# Altium footprint library SG__PCB_SMD_Connectors.PcbLib: 63 footprints (part 1 of 4)
Each footprint in its own frame and in the unit in brackets; x right, y up, seen from the top. Pads: shape width x height; smd on the part's side, far side on the other; paste and mask are expansions set on the pad; w line width, h text height; cw(c..) or ccw(c..) is an arc to the next point about the centre after c.
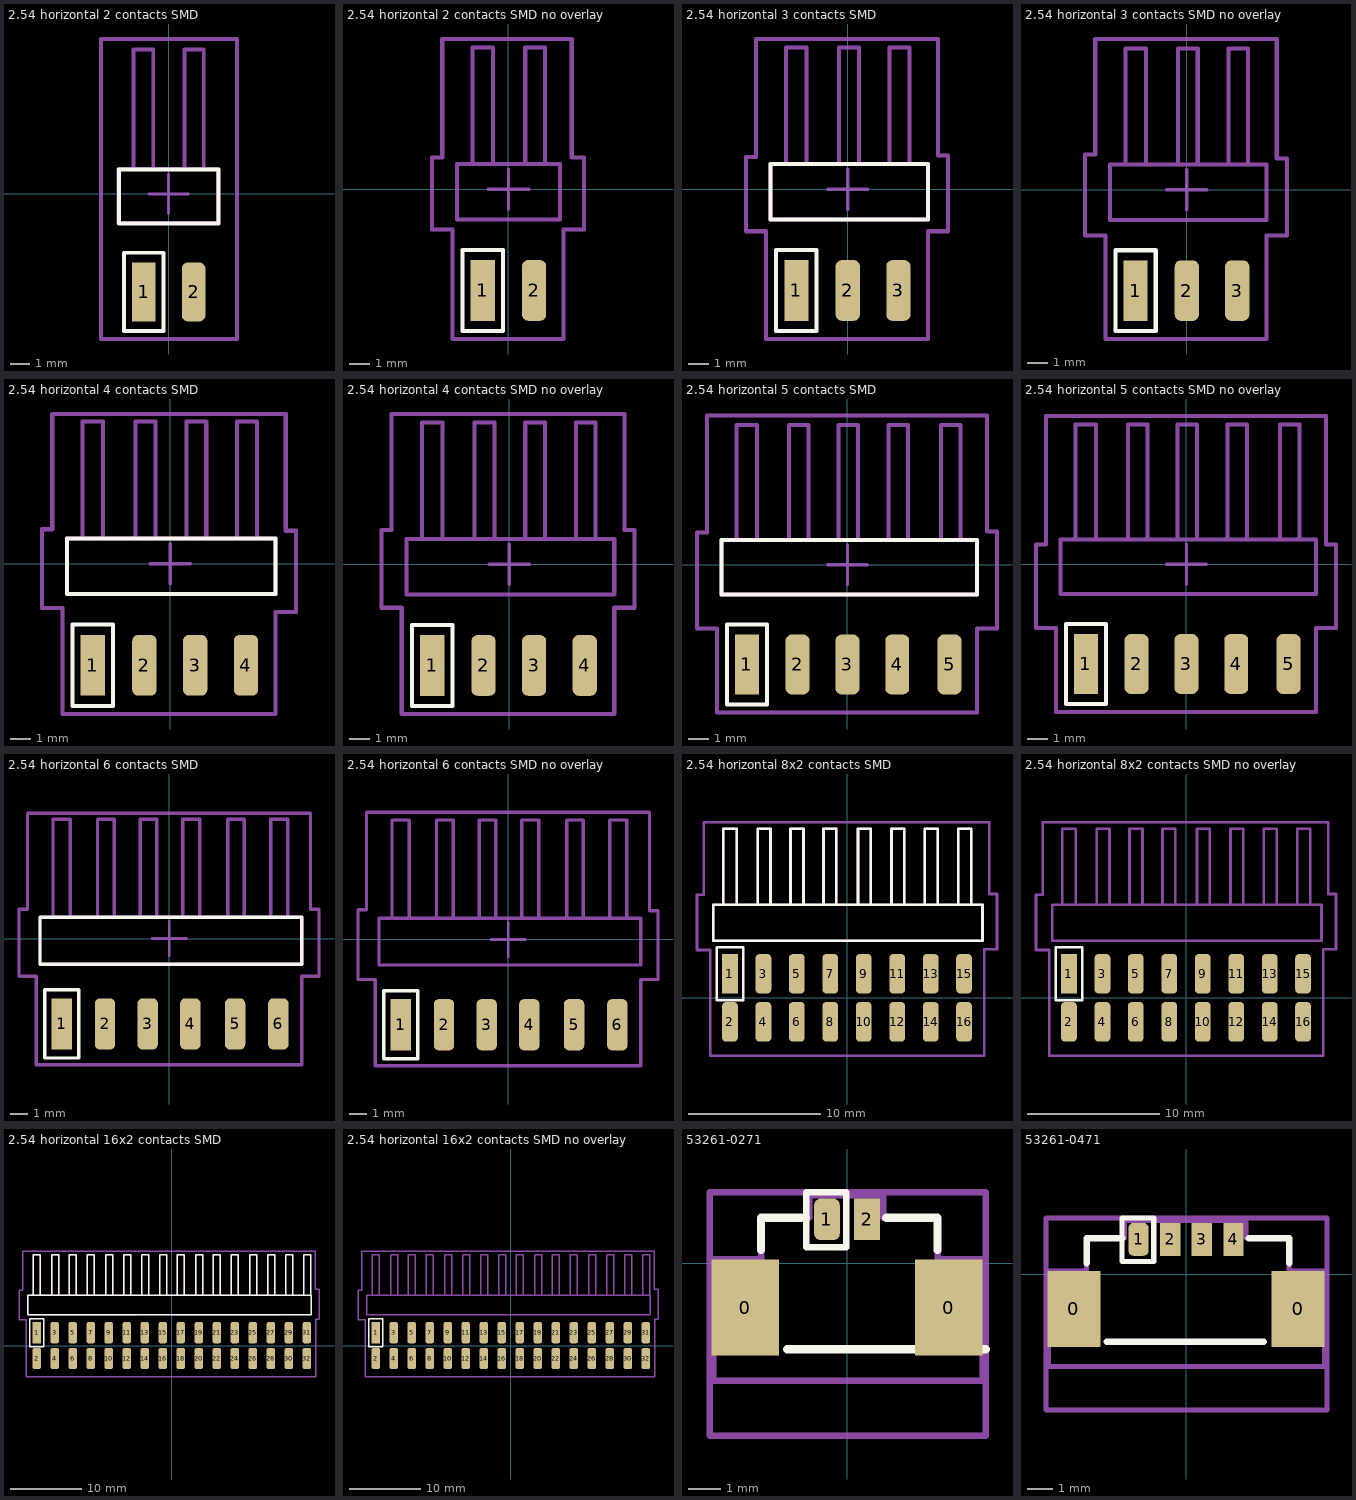
[diagram p0: the footprints below, top view; thin cyan lines are the x and y axes]

## 2.54 horizontal 2 contacts SMD [mm]
pads (2):
  rect 1.2x3 smd: 1(-1.27,-5)
  rrect50% 1.2x3 smd: 2(1.27,-5)
Top Overlay:
  lines w0.2: -2.54,-1.5 2.54,-1.5 2.54,1.25 -2.54,1.25 -2.54,-1.5 ; -2.27,-7 -0.27,-7 -0.27,-3 -2.27,-3 -2.27,-7
Top Assembly:
  lines w0.2: -1.802,1.272 -1.802,7.372 -0.786,7.372 -0.786,3.134 -0.786,1.272 ; 0.808,1.272 0.808,7.372 1.789,7.372 1.789,1.272 ; -2.564,-1.478 2.516,-1.478 2.516,1.272 -2.564,1.272 -2.564,-1.478
Top Courtyard:
  lines w0.16: -1,0 1,0 ; 0,-1 0,1
  lines w0.2: -3.445,-7.4 -3.445,-1.925 -3.445,1.825 -3.445,7.9 3.48,7.9 3.48,1.825 3.48,-1.925 3.48,-7.4 -3.445,-7.4
3D body "pin_header_a-sl254-ea-g02mp1.stp": height 2.45, standoff -0.05, extent -2.535,-4.775 2.545,6.725

## 2.54 horizontal 2 contacts SMD no overlay [mm]
pads (2):
  rect 1.2x3 smd: 1(-1.27,-5)
  rrect50% 1.2x3 smd: 2(1.27,-5)
Top Overlay:
  lines w0.2: -2.27,-7 -0.27,-7 -0.27,-3 -2.27,-3 -2.27,-7
Top Assembly:
  lines w0.2: -2.54,-1.5 2.54,-1.5 ; -2.54,-1.5 -2.54,1.25 ; -2.54,-1.5 2.54,-1.5 ; -2.54,-1.5 -2.54,1.25 ; -2.54,1.25 2.54,1.25 ; -2.54,1.25 2.54,1.25 ; -1.778,7 -1.778,1.25 -1.778,7 ; -1.778,7 -0.762,7 ; -1.778,7 -0.762,7 ; -0.762,3.112 -0.762,1.25 -0.762,3.112 ; -0.762,3.112 -0.762,7 ; -0.762,3.112 -0.762,7 ; 0.833,7 1.813,7 ; 0.833,7 0.833,1.25 0.833,7 ; 0.833,7 1.813,7 ; 1.813,7 1.813,1.25 1.813,7 ; 2.54,-1.5 2.54,1.25 ; 2.54,-1.5 2.54,1.25
Top Courtyard:
  lines w0.16: -1,0 1,0 ; 0,-1 0,1
  lines w0.2: -3.77,-2 -2.77,-2 -2.77,-7.4 2.73,-7.4 2.73,-2 3.73,-2 3.73,1.575 3.13,1.575 3.13,7.425 -3.27,7.425 -3.27,1.575 -3.77,1.575 -3.77,-2
3D body "pin_header_a-sl254-ea-g02mp1.stp": height 2.45, standoff -0.05, extent -2.51,-4.725 2.57,6.775

## 2.54 horizontal 3 contacts SMD [mm]
pads (3):
  rect 1.2x3 smd: 1(-2.54,-5)
  rrect50% 1.2x3 smd: 2(0,-5) 3(2.5,-5)
Top Overlay:
  lines w0.2: -3.81,-1.5 -3.81,1.25 3.96,1.25 3.96,-1.5 -3.81,-1.5 ; -3.54,-7 -3.54,-3 -1.54,-3 -1.54,-7 -3.54,-7
Top Assembly:
  lines w0.2: -3.048,1.25 -3.048,7 -2.032,7 -2.032,3.112 -2.032,1.25 ; -0.437,1.25 -0.437,7 0.543,7 0.543,1.25 ; 2.063,1.25 2.063,7 3.043,7 3.043,1.25 ; -3.81,-1.5 -3.81,1.25 3.96,1.25 3.96,-1.5 -3.81,-1.5
Top Courtyard:
  lines w0.16: -1,0 1,0 ; 0,-1 0,1
  lines w0.2: -5.04,-2.075 -5.04,1.586 -4.54,1.586 -4.54,7.425 4.46,7.425 4.46,1.675 4.96,1.675 4.96,-2.075 3.96,-2.075 3.96,-7.4 -4.04,-7.4 -4.04,-2.075 -5.04,-2.075
3D body "pin_header_a-sl254-ea-g03mp1.stp": height 2.45, standoff -0.05, extent -3.775,-4.85 3.845,6.65

## 2.54 horizontal 3 contacts SMD no overlay [mm]
pads (3):
  rect 1.2x3 smd: 1(-2.54,-5)
  rrect50% 1.2x3 smd: 2(0,-5) 3(2.5,-5)
Top Overlay:
  lines w0.2: -3.54,-7 -1.54,-7 -1.54,-3 -3.54,-3 -3.54,-7
Top Assembly:
  lines w0.2: -3.81,-1.5 -3.81,1.25 ; -3.81,-1.5 3.96,-1.5 ; -3.81,-1.5 3.96,-1.5 ; -3.81,-1.5 -3.81,1.25 ; -3.81,1.25 3.96,1.25 ; -3.81,1.25 3.96,1.25 ; -3.048,7 -2.032,7 ; -3.048,7 -3.048,1.25 -3.048,7 ; -3.048,7 -2.032,7 ; -2.032,3.112 -2.032,7 ; -2.032,3.112 -2.032,1.25 -2.032,3.112 ; -2.032,3.112 -2.032,7 ; -0.437,7 0.543,7 ; -0.437,7 -0.437,1.25 -0.437,7 ; -0.437,7 0.543,7 ; 0.543,7 0.543,1.25 0.543,7 ; 2.063,7 3.043,7 ; 2.063,7 2.063,1.25 2.063,7 ; 2.063,7 3.043,7 ; 3.043,7 3.043,1.25 3.043,7 ; 3.96,-1.5 3.96,1.25 ; 3.96,-1.5 3.96,1.25
Top Courtyard:
  lines w0.16: -1,0 1,0 ; 0,-1 0,1
  lines w0.2: -5.04,-2.275 -4.04,-2.275 -4.04,-7.4 3.96,-7.4 3.96,-2.275 4.96,-2.275 4.96,1.55 4.46,1.55 4.46,7.475 -4.54,7.475 -4.54,1.75 -5.04,1.75 -5.04,-2.275
3D body "pin_header_a-sl254-ea-g03mp1.stp": height 2.45, standoff -0.05, extent -3.757,-5.5 3.863,6

## 2.54 horizontal 4 contacts SMD [mm]
pads (4):
  rect 1.2x3 smd: 1(-3.81,-5)
  rrect50% 1.2x3 smd: 2(-1.27,-5) 3(1.23,-5) 4(3.73,-5)
Top Overlay:
  lines w0.2: -5.08,-1.5 -5.08,1.25 5.19,1.25 5.19,-1.5 -5.08,-1.5 ; -4.81,-7 -4.81,-3 -2.81,-3 -2.81,-7 -4.81,-7
Top Assembly:
  lines w0.2: -4.318,1.25 -4.318,7 -3.302,7 -3.302,3.112 -3.302,1.25 ; -1.707,1.25 -1.707,7 -0.727,7 -0.727,1.25 ; 0.793,1.25 0.793,7 1.773,7 1.773,1.25 ; 3.293,1.25 3.293,7 4.273,7 4.273,1.25 ; -5.08,-1.5 -5.08,1.25 5.19,1.25 5.19,-1.5 -5.08,-1.5
Top Courtyard:
  lines w0.16: -1,0 1,0 ; 0,-1 0,1
  lines w0.2: -6.31,-2.175 -6.31,1.7 -5.81,1.7 -5.81,7.375 5.69,7.375 5.69,1.625 6.19,1.625 6.19,-2.371 5.19,-2.371 5.19,-7.4 -5.31,-7.4 -5.31,-2.175 -6.31,-2.175
3D body "pin_header_a-sl254-ea-g04mp1.x_t": height 2.45, standoff -0.05, extent -5.125,-5.371 5.035,6.129

## 2.54 horizontal 4 contacts SMD no overlay [mm]
pads (4):
  rect 1.2x3 smd: 1(-3.81,-5)
  rrect50% 1.2x3 smd: 2(-1.27,-5) 3(1.23,-5) 4(3.73,-5)
Top Overlay:
  lines w0.2: -4.81,-7 -4.81,-3 -2.81,-3 -2.81,-7 -4.81,-7
Top Assembly:
  lines w0.2: -5.08,-1.5 -5.08,1.25 ; -5.08,-1.5 5.19,-1.5 ; -5.08,-1.5 5.19,-1.5 ; -5.08,-1.5 -5.08,1.25 ; -5.08,1.25 5.19,1.25 ; -5.08,1.25 5.19,1.25 ; -4.318,7 -3.302,7 ; -4.318,7 -4.318,1.25 -4.318,7 ; -4.318,7 -3.302,7 ; -3.302,3.112 -3.302,1.25 -3.302,3.112 ; -3.302,3.112 -3.302,7 ; -3.302,3.112 -3.302,7 ; -1.707,7 -0.727,7 ; -1.707,7 -1.707,1.25 -1.707,7 ; -1.707,7 -0.727,7 ; -0.727,7 -0.727,1.25 -0.727,7 ; 0.793,7 1.773,7 ; 0.793,7 0.793,1.25 0.793,7 ; 0.793,7 1.773,7 ; 1.773,7 1.773,1.25 1.773,7 ; 3.293,7 4.273,7 ; 3.293,7 3.293,1.25 3.293,7 ; 3.293,7 4.273,7 ; 4.273,7 4.273,1.25 4.273,7 ; 5.19,-1.5 5.19,1.25 ; 5.19,-1.5 5.19,1.25
Top Courtyard:
  lines w0.16: -1,0 1,0 ; 0,-1 0,1
  lines w0.2: -6.31,-2.15 -6.31,1.7 -5.81,1.7 -5.81,7.425 5.69,7.425 5.69,1.7 6.19,1.7 6.19,-2.15 5.19,-2.15 5.19,-7.4 -5.31,-7.4 -5.31,-2.15 -6.31,-2.15
3D body "pin_header_a-sl254-ea-g04mp1.x_t": height 2.45, standoff -0.05, extent -5.125,-5.371 5.035,6.129

## 2.54 horizontal 5 contacts SMD [mm]
pads (5):
  rect 1.2x3 smd: 1(-5.04,-5)
  rrect50% 1.2x3 smd: 2(-2.5,-5) 3(0,-5) 4(2.5,-5) 5(5.12,-5)
Top Overlay:
  lines w0.2: -6.31,-1.5 6.5,-1.5 6.5,1.25 -6.31,1.25 -6.31,-1.5 ; -6.04,-7 -4.04,-7 -4.04,-3 -6.04,-3 -6.04,-7
Top Assembly:
  lines w0.2: -5.548,1.25 -5.548,7 -4.532,7 -4.532,3.112 -4.532,1.25 ; -2.937,1.25 -2.937,7 -1.957,7 -1.957,1.25 ; -0.437,1.25 -0.437,7 0.543,7 0.543,1.25 ; 2.063,1.25 2.063,7 3.043,7 3.043,1.25 ; 4.683,1.25 4.683,7 5.663,7 5.663,1.25 ; -6.31,-1.5 -6.31,1.25 6.5,1.25 6.5,-1.5 -6.31,-1.5
Top Courtyard:
  lines w0.16: -1,0 1,0 ; 0,-1 0,1
  lines w0.2: -7.54,-3.2 -6.54,-3.2 -6.54,-7.4 6.5,-7.4 6.5,-3.2 7.5,-3.2 7.5,1.663 7,1.663 7,7.475 -7.04,7.475 -7.04,1.625 -7.54,1.625 -7.54,-3.2
3D body "pin_header_a-sl254-ea-g03mp1.stp": height 2.45, standoff -0.05, extent -6.282,-5.075 1.338,6.425
3D body "pin_header_a-sl254-ea-g02mp1.stp": height 2.45, standoff -0.05, extent 1.235,-5.075 6.315,6.425

## 2.54 horizontal 5 contacts SMD no overlay [mm]
pads (5):
  rect 1.2x3 smd: 1(-5.04,-5)
  rrect50% 1.2x3 smd: 2(-2.5,-5) 3(0,-5) 4(2.5,-5) 5(5.12,-5)
Top Overlay:
  lines w0.2: -6.04,-7 -4.04,-7 -4.04,-3 -6.04,-3 -6.04,-7
Top Assembly:
  lines w0.2: -6.31,-1.5 -6.31,1.25 ; -6.31,-1.5 6.5,-1.5 ; -6.31,-1.5 6.5,-1.5 ; -6.31,-1.5 -6.31,1.25 ; -6.31,1.25 6.5,1.25 ; -6.31,1.25 6.5,1.25 ; -5.548,7 -5.548,1.25 -5.548,7 ; -5.548,7 -4.532,7 ; -5.548,7 -4.532,7 ; -4.532,3.112 -4.532,7 ; -4.532,3.112 -4.532,1.25 -4.532,3.112 ; -4.532,3.112 -4.532,7 ; -2.937,7 -2.937,1.25 -2.937,7 ; -2.937,7 -1.957,7 ; -2.937,7 -1.957,7 ; -1.957,7 -1.957,1.25 -1.957,7 ; -0.437,7 -0.437,1.25 -0.437,7 ; -0.437,7 0.543,7 ; -0.437,7 0.543,7 ; 0.543,7 0.543,1.25 0.543,7 ; 2.063,7 2.063,1.25 2.063,7 ; 2.063,7 3.043,7 ; 2.063,7 3.043,7 ; 3.043,7 3.043,1.25 3.043,7 ; 4.683,7 4.683,1.25 4.683,7 ; 4.683,7 5.663,7 ; 4.683,7 5.663,7 ; 5.663,7 5.663,1.25 5.663,7 ; 6.5,-1.5 6.5,1.25 ; 6.5,-1.5 6.5,1.25
Top Courtyard:
  lines w0.16: -1,0 1,0 ; 0,-1 0,1
  lines w0.2: -7.54,-3.2 -6.54,-3.2 -6.54,-7.4 6.5,-7.4 6.5,-3.2 7.5,-3.2 7.5,1 7,1 7,7.425 -7.04,7.425 -7.04,1 -7.54,1 -7.54,-3.2
3D body "pin_header_a-sl254-ea-g02mp1.stp": height 2.45, standoff -0.05, extent 1.235,-4.8 6.315,6.7
3D body "pin_header_a-sl254-ea-g03mp1.stp": height 2.45, standoff -0.05, extent -6.282,-4.8 1.338,6.7

## 2.54 horizontal 6 contacts SMD [mm]
pads (6):
  rect 1.2x3 smd: 1(-6.31,-5)
  rrect50% 1.2x3 smd: 2(-3.77,-5) 3(-1.27,-5) 4(1.23,-5) 5(3.85,-5) 6(6.39,-5)
Top Overlay:
  lines w0.2: -7.58,-1.5 -7.58,1.25 7.77,1.25 7.77,-1.5 -7.58,-1.5 ; -7.31,-7 -7.31,-3 -5.31,-3 -5.31,-7 -7.31,-7
Top Assembly:
  lines w0.2: -6.818,1.25 -6.818,7 -5.802,7 -5.802,3.112 -5.802,1.25 ; -4.207,1.25 -4.207,7 -3.227,7 -3.227,1.25 ; -1.707,1.25 -1.707,7 -0.727,7 -0.727,1.25 ; 0.793,1.25 0.793,7 1.773,7 1.773,1.25 ; 3.413,1.25 3.413,7 4.393,7 4.393,1.25 ; 5.953,1.25 5.953,7 6.933,7 6.933,1.25 ; -7.58,-1.5 7.77,-1.5 7.77,1.25 -7.58,1.25 -7.58,-1.5
Top Courtyard:
  lines w0.16: -1,0 1,0 ; 0,-1 0,1
  lines w0.2: -8.81,-2.2 -8.81,1.725 -8.31,1.725 -8.31,7.35 8.27,7.35 8.27,1.725 8.77,1.725 8.77,-2.2 7.77,-2.2 7.77,-7.4 -7.81,-7.4 -7.81,-2.2 -8.81,-2.2
3D body "pin_header_a-sl254-ea-g03mp1.stp": height 2.45, standoff -0.05, extent -7.637,-5.25 -0.017,6.25
3D body "pin_header_a-sl254-ea-g03mp1.stp": height 2.45, standoff -0.05, extent -0.097,-5.25 7.523,6.25

## 2.54 horizontal 6 contacts SMD no overlay [mm]
pads (6):
  rect 1.2x3 smd: 1(-6.31,-5)
  rrect50% 1.2x3 smd: 2(-3.77,-5) 3(-1.27,-5) 4(1.23,-5) 5(3.85,-5) 6(6.39,-5)
Top Overlay:
  lines w0.2: -7.31,-7 -7.31,-3 -5.31,-3 -5.31,-7 -7.31,-7
Top Assembly:
  lines w0.2: -7.58,-1.5 7.77,-1.5 ; -7.58,-1.5 -7.58,1.25 ; -7.58,-1.5 -7.58,1.25 ; -7.58,-1.5 7.77,-1.5 ; -7.58,1.25 7.77,1.25 ; -7.58,1.25 7.77,1.25 ; -6.818,7 -5.802,7 ; -6.818,7 -6.818,1.25 -6.818,7 ; -6.818,7 -5.802,7 ; -5.802,3.112 -5.802,1.25 -5.802,3.112 ; -5.802,3.112 -5.802,7 ; -5.802,3.112 -5.802,7 ; -4.207,7 -3.227,7 ; -4.207,7 -4.207,1.25 -4.207,7 ; -4.207,7 -3.227,7 ; -3.227,7 -3.227,1.25 -3.227,7 ; -1.707,7 -0.727,7 ; -1.707,7 -1.707,1.25 -1.707,7 ; -1.707,7 -0.727,7 ; -0.727,7 -0.727,1.25 -0.727,7 ; 0.793,7 1.773,7 ; 0.793,7 0.793,1.25 0.793,7 ; 0.793,7 1.773,7 ; 1.773,7 1.773,1.25 1.773,7 ; 3.413,7 4.393,7 ; 3.413,7 3.413,1.25 3.413,7 ; 3.413,7 4.393,7 ; 4.393,7 4.393,1.25 4.393,7 ; 5.953,7 6.933,7 ; 5.953,7 5.953,1.25 5.953,7 ; 5.953,7 6.933,7 ; 6.933,7 6.933,1.25 6.933,7 ; 7.77,-1.5 7.77,1.25 ; 7.77,-1.5 7.77,1.25
Top Courtyard:
  lines w0.16: -1,0 1,0 ; 0,-1 0,1
  lines w0.2: -8.81,-2.35 -8.81,1.75 -8.31,1.75 -8.31,7.45 8.27,7.45 8.27,1.68 8.77,1.68 8.77,-2.35 7.77,-2.35 7.77,-7.4 -7.81,-7.4 -7.81,-2.35 -8.81,-2.35
3D body "pin_header_a-sl254-ea-g03mp1.stp": height 2.45, standoff -0.05, extent -7.527,-4.625 0.093,6.875
3D body "pin_header_a-sl254-ea-g03mp1.stp": height 2.45, standoff -0.05, extent 0.013,-4.625 7.633,6.875

## 2.54 horizontal 8x2 contacts SMD [mm]
pads (16):
  rect 1.2x3 smd: 1(-8.89,1.825)
  rrect50% 1.2x3 smd: 2(-8.89,-1.825) 3(-6.35,1.825) 4(-6.35,-1.825) 5(-3.81,1.825) 6(-3.81,-1.825) 7(-1.27,1.825) 8(-1.27,-1.825) 9(1.27,1.825) 10(1.27,-1.825) 11(3.81,1.825) 12(3.81,-1.825) 13(6.35,1.825) 14(6.35,-1.825) 15(8.89,1.825) 16(8.89,-1.825)
Top Overlay:
  lines w0.2: -9.398,7.075 -9.398,12.825 -8.382,12.825 -8.382,8.937 -8.382,7.075 ; -6.787,7.075 -6.787,12.825 -5.807,12.825 -5.807,7.075 ; -4.287,7.075 -4.287,12.825 -3.307,12.825 -3.307,7.075 ; -1.787,7.075 -1.787,12.825 -0.807,12.825 -0.807,7.075 ; 0.833,7.075 0.833,12.825 1.813,12.825 1.813,7.075 ; 3.373,7.075 3.373,12.825 4.353,12.825 4.353,7.075 ; 5.913,7.075 5.913,12.825 6.893,12.825 6.893,7.075 ; 8.453,7.075 8.453,12.825 9.433,12.825 9.433,7.075 ; 9.433,7.075 -10.16,7.075 -10.16,4.325 9.525,4.325 10.285,4.325 10.285,7.075 9.433,7.075 ; -9.89,-0.175 -7.89,-0.175 -7.89,3.825 -9.89,3.825 -9.89,-0.175
Top Assembly:
  lines w0.2: -9.398,7.075 -9.398,12.825 -8.382,12.825 -8.382,8.937 -8.382,7.075 ; -6.787,7.075 -6.787,12.825 -5.807,12.825 -5.807,7.075 ; -4.287,7.075 -4.287,12.825 -3.307,12.825 -3.307,7.075 ; -1.787,7.075 -1.787,12.825 -0.807,12.825 -0.807,7.075 ; 0.833,7.075 0.833,12.825 1.813,12.825 1.813,7.075 ; 3.373,7.075 3.373,12.825 4.353,12.825 4.353,7.075 ; 5.913,7.075 5.913,12.825 6.893,12.825 6.893,7.075 ; 8.453,7.075 8.453,12.825 9.433,12.825 9.433,7.075 ; -10.16,4.325 -10.16,7.075 10.285,7.075 10.285,4.325 -10.16,4.325
Top Courtyard:
  lines w0.2: 9.279,13.325 10.81,13.325 10.81,7.883 11.385,7.883 11.385,3.683 10.41,3.683 10.41,-4.398 9.779,-4.398 -10.39,-4.398 -10.39,3.625 -11.39,3.625 -11.39,7.825 -10.89,7.825 -10.89,13.325 10.287,13.325
3D body "pin_header_a-sl254-da-g04mp1.stp": height 5, standoff -0.02, extent 0,-2.874 5.08,13.246
3D body "pin_header_a-sl254-da-g04mp1.stp": height 5, standoff -0.02, extent -5.08,-2.874 0,13.246
3D body "pin_header_a-sl254-da-g04mp1.stp": height 5, standoff -0.02, extent -10.16,-2.874 -5.08,13.246
3D body "pin_header_a-sl254-da-g04mp1.stp": height 5, standoff -0.02, extent 5.08,-2.874 10.16,13.246

## 2.54 horizontal 8x2 contacts SMD no overlay [mm]
pads (16):
  rect 1.2x3 smd: 1(-8.89,1.825)
  rrect50% 1.2x3 smd: 2(-8.89,-1.825) 3(-6.35,1.825) 4(-6.35,-1.825) 5(-3.81,1.825) 6(-3.81,-1.825) 7(-1.27,1.825) 8(-1.27,-1.825) 9(1.27,1.825) 10(1.27,-1.825) 11(3.81,1.825) 12(3.81,-1.825) 13(6.35,1.825) 14(6.35,-1.825) 15(8.89,1.825) 16(8.89,-1.825)
Top Overlay:
  lines w0.2: -9.89,-0.175 -9.89,3.825 -7.89,3.825 -7.89,-0.175 -9.89,-0.175
Top Assembly:
  lines w0.2: -10.16,4.325 9.525,4.325 10.285,4.325 ; -10.16,4.325 -10.16,7.075 ; -10.16,4.325 10.285,4.325 ; -10.16,4.325 -10.16,7.075 ; -10.16,7.075 9.433,7.075 ; -10.16,7.075 10.285,7.075 ; -9.398,12.825 -8.382,12.825 ; -9.398,12.825 -9.398,7.075 -9.398,12.825 ; -9.398,12.825 -8.382,12.825 ; -8.382,8.937 -8.382,12.825 ; -8.382,8.937 -8.382,7.075 -8.382,8.937 ; -8.382,8.937 -8.382,12.825 ; -6.787,12.825 -5.807,12.825 ; -6.787,12.825 -6.787,7.075 -6.787,12.825 ; -6.787,12.825 -5.807,12.825 ; -5.807,12.825 -5.807,7.075 -5.807,12.825 ; -4.287,12.825 -3.307,12.825 ; -4.287,12.825 -4.287,7.075 -4.287,12.825 ; -4.287,12.825 -3.307,12.825 ; -3.307,12.825 -3.307,7.075 -3.307,12.825 ; -1.787,12.825 -0.807,12.825 ; -1.787,12.825 -1.787,7.075 -1.787,12.825 ; -1.787,12.825 -0.807,12.825 ; -0.807,12.825 -0.807,7.075 -0.807,12.825 ; 0.833,12.825 1.813,12.825 ; 0.833,12.825 0.833,7.075 0.833,12.825 ; 0.833,12.825 1.813,12.825 ; 1.813,12.825 1.813,7.075 1.813,12.825 ; 3.373,12.825 4.353,12.825 ; 3.373,12.825 3.373,7.075 3.373,12.825 ; 3.373,12.825 4.353,12.825 ; 4.353,12.825 4.353,7.075 4.353,12.825 ; 5.913,12.825 6.893,12.825 ; 5.913,12.825 5.913,7.075 5.913,12.825 ; 5.913,12.825 6.893,12.825 ; 6.893,12.825 6.893,7.075 6.893,12.825 ; 8.453,12.825 9.433,12.825 ; 8.453,12.825 8.453,7.075 8.453,12.825 ; 8.453,12.825 9.433,12.825 ; 9.433,7.075 9.433,12.825 ; 9.433,7.075 10.285,7.075 ; 9.433,7.075 9.433,12.825 ; 10.285,4.325 10.285,7.075 ; 10.285,4.325 10.285,7.075
Top Courtyard:
  lines w0.2: 9.279,13.325 10.81,13.325 10.81,7.883 11.385,7.883 11.385,3.683 10.41,3.683 10.41,-4.398 9.779,-4.398 -10.39,-4.398 -10.39,3.625 -11.39,3.625 -11.39,7.825 -10.89,7.825 -10.89,13.325 10.287,13.325
3D body "pin_header_a-sl254-da-g04mp1.stp": height 5, standoff -0.02, extent 5.08,-2.874 10.16,13.246
3D body "pin_header_a-sl254-da-g04mp1.stp": height 5, standoff -0.02, extent -10.16,-2.874 -5.08,13.246
3D body "pin_header_a-sl254-da-g04mp1.stp": height 5, standoff -0.02, extent -5.08,-2.874 0,13.246
3D body "pin_header_a-sl254-da-g04mp1.stp": height 5, standoff -0.02, extent 0,-2.874 5.08,13.246

## 2.54 horizontal 16x2 contacts SMD [mm]
pads (32):
  rect 1.2x3 smd: 1(-19.05,1.825)
  rrect50% 1.2x3 smd: 2(-19.05,-1.825) 3(-16.51,1.825) 4(-16.51,-1.825) 5(-13.97,1.825) 6(-13.97,-1.825) 7(-11.43,1.825) 8(-11.43,-1.825) 9(-8.89,1.825) 10(-8.89,-1.825) 11(-6.35,1.825) 12(-6.35,-1.825) 13(-3.81,1.825) 14(-3.81,-1.825) 15(-1.27,1.825) 16(-1.27,-1.825) 17(1.27,1.825) 18(1.27,-1.825) 19(3.81,1.825) 20(3.81,-1.825) 21(6.35,1.825) 22(6.35,-1.825) 23(8.89,1.825) 24(8.89,-1.825) 25(11.43,1.825) 26(11.43,-1.825) 27(13.97,1.825) 28(13.97,-1.825) 29(16.51,1.825) 30(16.51,-1.825) 31(19.05,1.825) 32(19.05,-1.825)
Top Overlay:
  lines w0.2: -19.558,7.075 -19.558,12.825 -18.542,12.825 -18.542,8.937 -18.542,7.075 ; -16.947,7.075 -16.947,12.825 -15.967,12.825 -15.967,7.075 ; -14.447,7.075 -14.447,12.825 -13.467,12.825 -13.467,7.075 ; -11.947,7.075 -11.947,12.825 -10.967,12.825 -10.967,7.075 ; -9.327,7.075 -9.327,12.825 -8.347,12.825 -8.347,7.075 ; -6.787,7.075 -6.787,12.825 -5.807,12.825 -5.807,7.075 ; -4.247,7.075 -4.247,12.825 -3.267,12.825 -3.267,7.075 ; -1.707,7.075 -1.707,12.825 -0.727,12.825 -0.727,7.075 ; 0.762,7.075 0.762,12.825 1.778,12.825 1.778,8.937 1.778,7.075 ; 3.373,7.075 3.373,12.825 4.353,12.825 4.353,7.075 ; 5.873,7.075 5.873,12.825 6.853,12.825 6.853,7.075 ; 8.373,7.075 8.373,12.825 9.353,12.825 9.353,7.075 ; 10.993,7.075 10.993,12.825 11.973,12.825 11.973,7.075 ; 13.533,7.075 13.533,12.825 14.513,12.825 14.513,7.075 ; 16.073,7.075 16.073,12.825 17.053,12.825 17.053,7.075 ; 18.613,7.075 18.613,12.825 19.593,12.825 19.593,7.075 ; -0.727,7.075 19.685,7.075 19.685,4.325 -0.635,4.325 -20.32,4.325 -20.32,7.075 -0.727,7.075 ; -20.05,-0.175 -20.05,3.825 -18.05,3.825 -18.05,-0.175 -20.05,-0.175
Top Assembly:
  lines w0.2: -19.558,7.075 -19.558,12.825 -18.542,12.825 -18.542,8.937 -18.542,7.075 ; -16.947,7.075 -16.947,12.825 -15.967,12.825 -15.967,7.075 ; -14.447,7.075 -14.447,12.825 -13.467,12.825 -13.467,7.075 ; -11.947,7.075 -11.947,12.825 -10.967,12.825 -10.967,7.075 ; -9.327,7.075 -9.327,12.825 -8.347,12.825 -8.347,7.075 ; -6.787,7.075 -6.787,12.825 -5.807,12.825 -5.807,7.075 ; -4.97,4.325 -20.32,4.325 -20.32,7.075 -4.97,7.075 ; 0,4.325 15.35,4.325 ; 0,7.075 15.35,7.075 ; 0.762,7.075 0.762,12.825 1.778,12.825 1.778,8.937 1.778,7.075 ; 3.373,7.075 3.373,12.825 4.353,12.825 4.353,7.075 ; 5.873,7.075 5.873,12.825 6.853,12.825 6.853,7.075 ; 8.373,7.075 8.373,12.825 9.353,12.825 9.353,7.075 ; 10.993,7.075 10.993,12.825 11.973,12.825 11.973,7.075 ; 13.533,7.075 13.533,12.825 14.513,12.825 14.513,7.075
Top Courtyard:
  lines w0.2: -0.881,13.325 20.296,13.325 ; 0.127,13.325 -21.05,13.325 -21.05,7.825 -21.55,7.825 -21.55,3.625 -20.55,3.625 -20.55,-4.398 -0.381,-4.398 20.32,-4.398 20.32,3.752 20.771,3.752 20.771,7.952 20.271,7.952 20.271,13.255
3D body "pin_header_a-sl254-da-g04mp1.stp": height 5, standoff -0.02, extent -5.08,-2.874 0,13.246
3D body "pin_header_a-sl254-da-g04mp1.stp": height 5, standoff -0.02, extent -20.32,-2.874 -15.24,13.246
3D body "pin_header_a-sl254-da-g04mp1.stp": height 5, standoff -0.02, extent -15.24,-2.874 -10.16,13.246
3D body "pin_header_a-sl254-da-g04mp1.stp": height 5, standoff -0.02, extent -10.16,-2.874 -5.08,13.246
3D body "pin_header_a-sl254-da-g04mp1.stp": height 5, standoff -0.02, extent 15.24,-2.874 20.32,13.246
3D body "pin_header_a-sl254-da-g04mp1.stp": height 5, standoff -0.02, extent 0,-2.874 5.08,13.246
3D body "pin_header_a-sl254-da-g04mp1.stp": height 5, standoff -0.02, extent 5.08,-2.874 10.16,13.246
3D body "pin_header_a-sl254-da-g04mp1.stp": height 5, standoff -0.02, extent 10.16,-2.874 15.24,13.246

## 2.54 horizontal 16x2 contacts SMD no overlay [mm]
pads (32):
  rect 1.2x3 smd: 1(-19.05,1.825)
  rrect50% 1.2x3 smd: 2(-19.05,-1.825) 3(-16.51,1.825) 4(-16.51,-1.825) 5(-13.97,1.825) 6(-13.97,-1.825) 7(-11.43,1.825) 8(-11.43,-1.825) 9(-8.89,1.825) 10(-8.89,-1.825) 11(-6.35,1.825) 12(-6.35,-1.825) 13(-3.81,1.825) 14(-3.81,-1.825) 15(-1.27,1.825) 16(-1.27,-1.825) 17(1.27,1.825) 18(1.27,-1.825) 19(3.81,1.825) 20(3.81,-1.825) 21(6.35,1.825) 22(6.35,-1.825) 23(8.89,1.825) 24(8.89,-1.825) 25(11.43,1.825) 26(11.43,-1.825) 27(13.97,1.825) 28(13.97,-1.825) 29(16.51,1.825) 30(16.51,-1.825) 31(19.05,1.825) 32(19.05,-1.825)
Top Overlay:
  lines w0.2: -20.05,-0.175 -18.05,-0.175 -18.05,3.825 -20.05,3.825 -20.05,-0.175
Top Assembly:
  lines w0.2: -4.97,4.325 -20.32,4.325 ; -4.97,7.075 -20.32,7.075 ; -4.247,7.075 -4.247,12.825 -3.267,12.825 -3.267,7.075 ; -1.707,7.075 -1.707,12.825 -0.727,12.825 -0.727,7.075 ; 0,4.325 15.35,4.325 ; 0,7.075 15.35,7.075 ; 16.073,7.075 16.073,12.825 17.053,12.825 17.053,7.075 ; 18.613,7.075 18.613,12.825 19.593,12.825 19.593,7.075 ; -20.32,4.325 -0.635,4.325 19.685,4.325 19.685,7.075 -0.727,7.075 ; -20.32,4.325 -20.32,7.075 ; -20.32,4.325 -20.32,7.075 ; -20.32,7.075 -0.727,7.075 ; -19.558,12.825 -18.542,12.825 ; -19.558,12.825 -19.558,7.075 -19.558,12.825 ; -19.558,12.825 -18.542,12.825 ; -18.542,8.937 -18.542,12.825 ; -18.542,8.937 -18.542,7.075 -18.542,8.937 ; -18.542,8.937 -18.542,12.825 ; -16.947,12.825 -15.967,12.825 ; -16.947,12.825 -16.947,7.075 -16.947,12.825 ; -16.947,12.825 -15.967,12.825 ; -15.967,12.825 -15.967,7.075 -15.967,12.825 ; -14.447,12.825 -13.467,12.825 ; -14.447,12.825 -14.447,7.075 -14.447,12.825 ; -14.447,12.825 -13.467,12.825 ; -13.467,12.825 -13.467,7.075 -13.467,12.825 ; -11.947,12.825 -10.967,12.825 ; -11.947,12.825 -11.947,7.075 -11.947,12.825 ; -11.947,12.825 -10.967,12.825 ; -10.967,12.825 -10.967,7.075 -10.967,12.825 ; -9.327,12.825 -8.347,12.825 ; -9.327,12.825 -9.327,7.075 -9.327,12.825 ; -9.327,12.825 -8.347,12.825 ; -8.347,12.825 -8.347,7.075 -8.347,12.825 ; -6.787,12.825 -5.807,12.825 ; -6.787,12.825 -6.787,7.075 -6.787,12.825 ; -6.787,12.825 -5.807,12.825 ; -5.807,12.825 -5.807,7.075 -5.807,12.825 ; 0.762,12.825 1.778,12.825 ; 0.762,12.825 0.762,7.075 0.762,12.825 ; 0.762,12.825 1.778,12.825 ; 1.778,8.937 1.778,7.075 1.778,8.937 ; 1.778,8.937 1.778,12.825 ; 1.778,8.937 1.778,12.825 ; 3.373,12.825 4.353,12.825 ; 3.373,12.825 3.373,7.075 3.373,12.825 ; 3.373,12.825 4.353,12.825 ; 4.353,12.825 4.353,7.075 4.353,12.825 ; 5.873,12.825 6.853,12.825 ; 5.873,12.825 5.873,7.075 5.873,12.825 ; 5.873,12.825 6.853,12.825 ; 6.853,12.825 6.853,7.075 6.853,12.825 ; 8.373,12.825 9.353,12.825 ; 8.373,12.825 8.373,7.075 8.373,12.825 ; 8.373,12.825 9.353,12.825 ; 9.353,12.825 9.353,7.075 9.353,12.825 ; 10.993,12.825 11.973,12.825 ; 10.993,12.825 10.993,7.075 10.993,12.825 ; 10.993,12.825 11.973,12.825 ; 11.973,12.825 11.973,7.075 11.973,12.825 ; 13.533,12.825 14.513,12.825 ; 13.533,12.825 13.533,7.075 13.533,12.825 ; 13.533,12.825 14.513,12.825 ; 14.513,12.825 14.513,7.075 14.513,12.825
Top Courtyard:
  lines w0.2: -0.881,13.325 20.296,13.325 ; 0.127,13.325 -21.05,13.325 -21.05,7.825 -21.55,7.825 -21.55,3.625 -20.55,3.625 -20.55,-4.398 -0.381,-4.398 20.32,-4.398 20.32,3.752 20.771,3.752 20.771,7.952 20.271,7.952 20.271,13.255
3D body "pin_header_a-sl254-da-g04mp1.stp": height 5, standoff -0.02, extent 10.16,-2.874 15.24,13.246
3D body "pin_header_a-sl254-da-g04mp1.stp": height 5, standoff -0.02, extent 5.08,-2.874 10.16,13.246
3D body "pin_header_a-sl254-da-g04mp1.stp": height 5, standoff -0.02, extent 0,-2.874 5.08,13.246
3D body "pin_header_a-sl254-da-g04mp1.stp": height 5, standoff -0.02, extent 15.24,-2.874 20.32,13.246
3D body "pin_header_a-sl254-da-g04mp1.stp": height 5, standoff -0.02, extent -10.16,-2.874 -5.08,13.246
3D body "pin_header_a-sl254-da-g04mp1.stp": height 5, standoff -0.02, extent -15.24,-2.874 -10.16,13.246
3D body "pin_header_a-sl254-da-g04mp1.stp": height 5, standoff -0.02, extent -20.32,-2.874 -15.24,13.246
3D body "pin_header_a-sl254-da-g04mp1.stp": height 5, standoff -0.02, extent -5.08,-2.874 0,13.246

## 53261-0271 [mm] "Molex PicoBlade horizontal 2p"
pads (4):
  rect 2.1x3 smd: 0(-3.175,-1.375) 0(3.175,-1.375)
  rrect50% 0.8x1.3 smd: 1(-0.625,1.375)
  rect 0.8x1.3 smd: 2(0.625,1.375)
Top Overlay:
  lines w0.2: -1.275,0.5 -0.025,0.5 -0.025,2.225 -1.275,2.225 -1.275,0.5
  lines w0.254: -2.675,0.425 -2.675,1.425 -1.275,1.425 ; -1.875,-2.675 4.325,-2.675 ; 1.225,1.425 2.825,1.425 2.825,0.425
Top Assembly:
  lines w0.2: -4.175,-3.65 4.225,-3.65 4.225,0.125 2.825,0.125 2.825,1.425 1.125,1.425 1.125,2.125 -1.175,2.125 -1.175,1.425 -2.675,1.425 -2.675,0.125 -4.175,0.125 -4.175,-3.65
Top Courtyard:
  lines w0.2: -4.275,-5.375 4.325,-5.375 4.325,2.225 -4.275,2.225 -4.275,-5.375
3D body "532610271.stp": height 3.5, standoff 0.1, extent -3.8,-3.45 3.85,1.75

## 53261-0471 [mm] "Molex PicoBlade horizontal 4p"
pads (6):
  rect 2.1x3 smd: 0(-4.425,-1.375) 0(4.425,-1.375)
  rrect50% 0.8x1.3 smd: 1(-1.875,1.375)
  rect 0.8x1.3 smd: 2(-0.625,1.375) 3(0.625,1.375) 4(1.875,1.375)
Top Overlay:
  lines w0.2: -2.525,0.5 -1.275,0.5 -1.275,2.225 -2.525,2.225 -2.525,0.5
  lines w0.254: -3.925,0.425 -3.925,1.425 -2.525,1.425 ; -3.125,-2.675 3.075,-2.675 ; 2.475,1.425 4.075,1.425 4.075,0.425
Top Assembly:
  lines w0.2: -5.425,-3.65 -5.425,0.125 -3.925,0.125 -3.925,1.425 -2.425,1.425 -2.425,2.125 2.375,2.125 2.375,1.425 4.075,1.425 4.075,0.125 5.475,0.125 5.475,-3.65 -5.425,-3.65
Top Courtyard:
  lines w0.2: -5.525,-5.375 -5.525,2.225 5.575,2.225 5.575,-5.375 -5.525,-5.375
3D body "53261_0471.stp": height 3.5, standoff 0.1, extent -5.1,-3.65 5.05,1.55